# Altium footprint library INA219.PcbLib: 1 footprints
Each footprint in its own frame and in the unit in brackets; x right, y up, seen from the top. Pads: shape width x height; smd on the part's side, far side on the other; paste and mask are expansions set on the pad; w line width, h text height; cw(c..) or ccw(c..) is an arc to the next point about the centre after c.
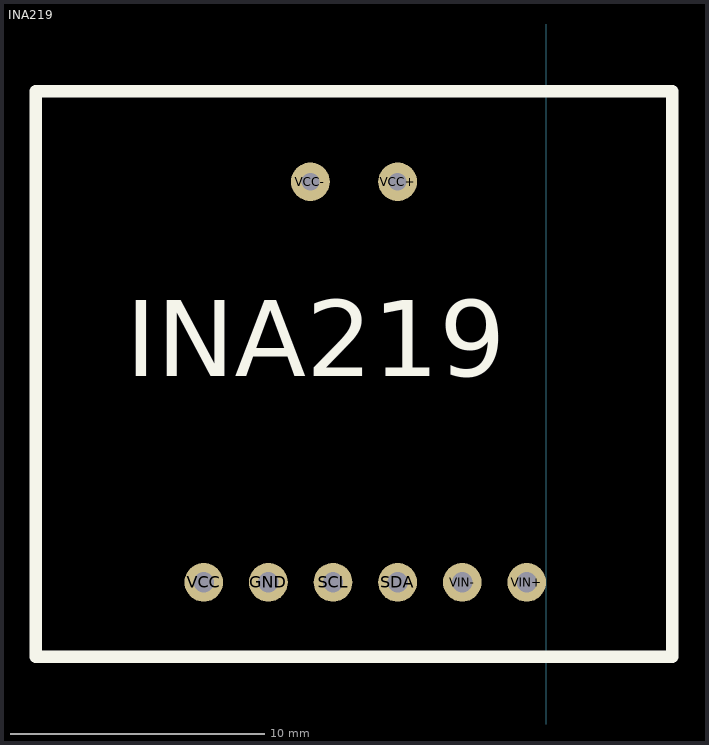
[diagram p0: the footprint, top view; thin cyan lines are the x and y axes]

## INA219 [mil]
pads (8):
  round 60 hole 31.5: GND(-430,1870) SCL(-330,1870) SDA(-230,1870) VCC(-530,1870) VIN+(-30,1870) VIN-(-130,1870)
  round 60 hole 27.56: VCC+(-230,2490) VCC-(-365,2490)
Top Overlay:
  lines w19.68: -790,1755 195,1755 195,2630 -790,2630 -790,1755
  text "INA219" at -651.06,2188.94 h118.11
3D body "CJMCU-219 INA219.step": height 98.43, standoff 0, extent -790,1746.02 194.25,2623.98